# Altium footprint library mw.PcbLib: 252 footprints (part 14 of 16)
Each footprint in its own frame and in the unit in brackets; x right, y up, seen from the top. Pads: shape width x height; smd on the part's side, far side on the other; paste and mask are expansions set on the pad; w line width, h text height; cw(c..) or ccw(c..) is an arc to the next point about the centre after c.
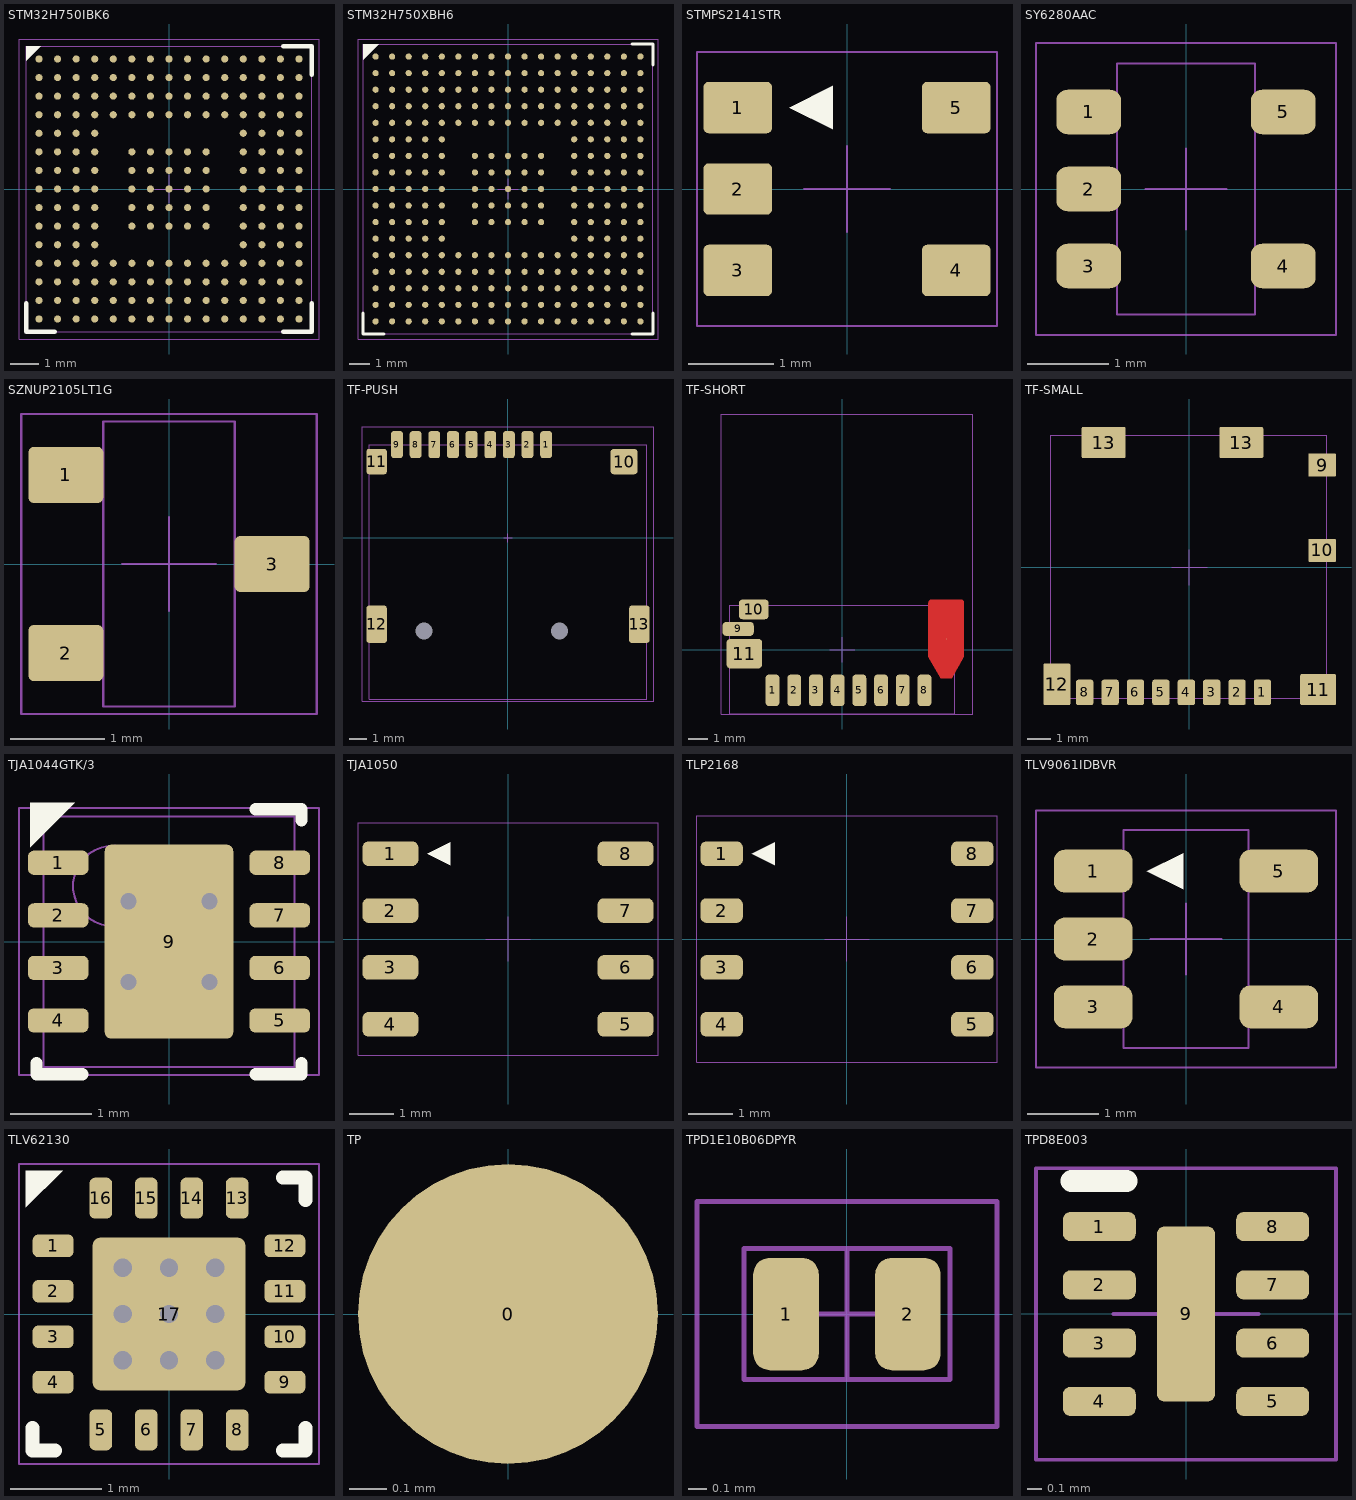
[diagram p13: the footprints below, top view; thin cyan lines are the x and y axes]

## STM32H750IBK6 [mm] "BGA, 201-Leads, Body 10.00x10.00mmx0.60mm, Pitch 0.65mm"
height 0.6
pads (201):
  round 0.25 smd: A1(-4.55,4.55) A2(-3.9,4.55) A3(-3.25,4.55) A4(-2.6,4.55) A5(-1.95,4.55) A6(-1.3,4.55) A7(-0.65,4.55) A8(0,4.55) A9(0.65,4.55) A10(1.3,4.55) A11(1.95,4.55) A12(2.6,4.55) A13(3.25,4.55) A14(3.9,4.55) A15(4.55,4.55) B1(-4.55,3.9) B2(-3.9,3.9) B3(-3.25,3.9) B4(-2.6,3.9) B5(-1.95,3.9) B6(-1.3,3.9) B7(-0.65,3.9) B8(0,3.9) B9(0.65,3.9) B10(1.3,3.9) B11(1.95,3.9) B12(2.6,3.9) B13(3.25,3.9) B14(3.9,3.9) B15(4.55,3.9) C1(-4.55,3.25) C2(-3.9,3.25) C3(-3.25,3.25) C4(-2.6,3.25) C5(-1.95,3.25) C6(-1.3,3.25) C7(-0.65,3.25) C8(0,3.25) C9(0.65,3.25) C10(1.3,3.25) C11(1.95,3.25) C12(2.6,3.25) C13(3.25,3.25) C14(3.9,3.25) C15(4.55,3.25) D1(-4.55,2.6) D2(-3.9,2.6) D3(-3.25,2.6) D4(-2.6,2.6) D5(-1.95,2.6) D6(-1.3,2.6) D7(-0.65,2.6) D8(0,2.6) D9(0.65,2.6) D10(1.3,2.6) D11(1.95,2.6) D12(2.6,2.6) D13(3.25,2.6) D14(3.9,2.6) D15(4.55,2.6) E1(-4.55,1.95) E2(-3.9,1.95) E3(-3.25,1.95) E4(-2.6,1.95) E12(2.6,1.95) E13(3.25,1.95) E14(3.9,1.95) E15(4.55,1.95) F1(-4.55,1.3) F2(-3.9,1.3) F3(-3.25,1.3) F4(-2.6,1.3) F6(-1.3,1.3) F7(-0.65,1.3) F8(0,1.3) F9(0.65,1.3) F10(1.3,1.3) F12(2.6,1.3) F13(3.25,1.3) F14(3.9,1.3) F15(4.55,1.3) G1(-4.55,0.65) G2(-3.9,0.65) G3(-3.25,0.65) G4(-2.6,0.65) G6(-1.3,0.65) G7(-0.65,0.65) G8(0,0.65) G9(0.65,0.65) G10(1.3,0.65) G12(2.6,0.65) G13(3.25,0.65) G14(3.9,0.65) G15(4.55,0.65) H1(-4.55,0) H2(-3.9,0) H3(-3.25,0) H4(-2.6,0) H6(-1.3,0) H7(-0.65,0) H8(0,0) H9(0.65,0) H10(1.3,0) H12(2.6,0) H13(3.25,0) H14(3.9,0) H15(4.55,0) J1(-4.55,-0.65) J2(-3.9,-0.65) J3(-3.25,-0.65) J4(-2.6,-0.65) J6(-1.3,-0.65) J7(-0.65,-0.65) J8(0,-0.65) J9(0.65,-0.65) J10(1.3,-0.65) J12(2.6,-0.65) J13(3.25,-0.65) J14(3.9,-0.65) J15(4.55,-0.65) K1(-4.55,-1.3) K2(-3.9,-1.3) K3(-3.25,-1.3) K4(-2.6,-1.3) K6(-1.3,-1.3) K7(-0.65,-1.3) K8(0,-1.3) K9(0.65,-1.3) K10(1.3,-1.3) K12(2.6,-1.3) K13(3.25,-1.3) K14(3.9,-1.3) K15(4.55,-1.3) L1(-4.55,-1.95) L2(-3.9,-1.95) L3(-3.25,-1.95) L4(-2.6,-1.95) L12(2.6,-1.95) L13(3.25,-1.95) L14(3.9,-1.95) L15(4.55,-1.95) M1(-4.55,-2.6) M2(-3.9,-2.6) M3(-3.25,-2.6) M4(-2.6,-2.6) M5(-1.95,-2.6) M6(-1.3,-2.6) M7(-0.65,-2.6) M8(0,-2.6) M9(0.65,-2.6) M10(1.3,-2.6) M11(1.95,-2.6) M12(2.6,-2.6) M13(3.25,-2.6) M14(3.9,-2.6) M15(4.55,-2.6) N1(-4.55,-3.25) N2(-3.9,-3.25) N3(-3.25,-3.25) N4(-2.6,-3.25) N5(-1.95,-3.25) N6(-1.3,-3.25) N7(-0.65,-3.25) N8(0,-3.25) N9(0.65,-3.25) N10(1.3,-3.25) N11(1.95,-3.25) N12(2.6,-3.25) N13(3.25,-3.25) N14(3.9,-3.25) N15(4.55,-3.25) P1(-4.55,-3.9) P2(-3.9,-3.9) P3(-3.25,-3.9) P4(-2.6,-3.9) P5(-1.95,-3.9) P6(-1.3,-3.9) P7(-0.65,-3.9) P8(0,-3.9) P9(0.65,-3.9) P10(1.3,-3.9) P11(1.95,-3.9) P12(2.6,-3.9) P13(3.25,-3.9) P14(3.9,-3.9) P15(4.55,-3.9) R1(-4.55,-4.55) R2(-3.9,-4.55) R3(-3.25,-4.55) R4(-2.6,-4.55) R5(-1.95,-4.55) R6(-1.3,-4.55) R7(-0.65,-4.55) R8(0,-4.55) R9(0.65,-4.55) R10(1.3,-4.55) R11(1.95,-4.55) R12(2.6,-4.55) R13(3.25,-4.55) R14(3.9,-4.55) R15(4.55,-4.55)
Top Overlay:
  region: -4.495,5 -5,4.495 -5,5
  lines w0.15: -5,-4 -5,-5 -4,-5 ; 4,-5 5,-5 5,-4 ; 4,5 5,5 5,4
Top 3D Body (Mech13):
  lines w0.025: -5,-5 5,-5 5,5 -5,5 -5,-5
Top Courtyard:
  lines w0.025: -0.5,0 0.5,0 ; 0,-0.5 0,0.5 ; -5.25,-5.25 5.25,-5.25 5.25,5.25 -5.25,5.25 -5.25,-5.25
3D body "STM32H750IBK6.step": height 0.6, standoff 0, extent -5,-5 5,5

## STM32H750XBH6 [mm] "BGA, 265-Leads, Body 14.00x14.00mmx1.20mm, Pitch 0.80mm"
height 1.2
pads (265):
  round 0.3 smd: A1(-6.4,6.4) A2(-5.6,6.4) A3(-4.8,6.4) A4(-4,6.4) A5(-3.2,6.4) A6(-2.4,6.4) A7(-1.6,6.4) A8(-0.8,6.4) A9(0,6.4) A10(0.8,6.4) A11(1.6,6.4) A12(2.4,6.4) A13(3.2,6.4) A14(4,6.4) A15(4.8,6.4) A16(5.6,6.4) A17(6.4,6.4) B1(-6.4,5.6) B2(-5.6,5.6) B3(-4.8,5.6) B4(-4,5.6) B5(-3.2,5.6) B6(-2.4,5.6) B7(-1.6,5.6) B8(-0.8,5.6) B9(0,5.6) B10(0.8,5.6) B11(1.6,5.6) B12(2.4,5.6) B13(3.2,5.6) B14(4,5.6) B15(4.8,5.6) B16(5.6,5.6) B17(6.4,5.6) C1(-6.4,4.8) C2(-5.6,4.8) C3(-4.8,4.8) C4(-4,4.8) C5(-3.2,4.8) C6(-2.4,4.8) C7(-1.6,4.8) C8(-0.8,4.8) C9(0,4.8) C10(0.8,4.8) C11(1.6,4.8) C12(2.4,4.8) C13(3.2,4.8) C14(4,4.8) C15(4.8,4.8) C16(5.6,4.8) C17(6.4,4.8) D1(-6.4,4) D2(-5.6,4) D3(-4.8,4) D4(-4,4) D5(-3.2,4) D6(-2.4,4) D7(-1.6,4) D8(-0.8,4) D9(0,4) D10(0.8,4) D11(1.6,4) D12(2.4,4) D13(3.2,4) D14(4,4) D15(4.8,4) D16(5.6,4) D17(6.4,4) E1(-6.4,3.2) E2(-5.6,3.2) E3(-4.8,3.2) E4(-4,3.2) E5(-3.2,3.2) E6(-2.4,3.2) E7(-1.6,3.2) E8(-0.8,3.2) E9(0,3.2) E10(0.8,3.2) E11(1.6,3.2) E12(2.4,3.2) E13(3.2,3.2) E14(4,3.2) E15(4.8,3.2) E16(5.6,3.2) E17(6.4,3.2) F1(-6.4,2.4) F2(-5.6,2.4) F3(-4.8,2.4) F4(-4,2.4) F5(-3.2,2.4) F13(3.2,2.4) F14(4,2.4) F15(4.8,2.4) F16(5.6,2.4) F17(6.4,2.4) G1(-6.4,1.6) G2(-5.6,1.6) G3(-4.8,1.6) G4(-4,1.6) G5(-3.2,1.6) G7(-1.6,1.6) G8(-0.8,1.6) G9(0,1.6) G10(0.8,1.6) G11(1.6,1.6) G13(3.2,1.6) G14(4,1.6) G15(4.8,1.6) G16(5.6,1.6) G17(6.4,1.6) H1(-6.4,0.8) H2(-5.6,0.8) H3(-4.8,0.8) H4(-4,0.8) H5(-3.2,0.8) H7(-1.6,0.8) H8(-0.8,0.8) H9(0,0.8) H10(0.8,0.8) H11(1.6,0.8) H13(3.2,0.8) H14(4,0.8) H15(4.8,0.8) H16(5.6,0.8) H17(6.4,0.8) J1(-6.4,0) J2(-5.6,0) J3(-4.8,0) J4(-4,0) J5(-3.2,0) J7(-1.6,0) J8(-0.8,0) J9(0,0) J10(0.8,0) J11(1.6,0) J13(3.2,0) J14(4,0) J15(4.8,0) J16(5.6,0) J17(6.4,0) K1(-6.4,-0.8) K2(-5.6,-0.8) K3(-4.8,-0.8) K4(-4,-0.8) K5(-3.2,-0.8) K7(-1.6,-0.8) K8(-0.8,-0.8) K9(0,-0.8) K10(0.8,-0.8) K11(1.6,-0.8) K13(3.2,-0.8) K14(4,-0.8) K15(4.8,-0.8) K16(5.6,-0.8) K17(6.4,-0.8) L1(-6.4,-1.6) L2(-5.6,-1.6) L3(-4.8,-1.6) L4(-4,-1.6) L5(-3.2,-1.6) L7(-1.6,-1.6) L8(-0.8,-1.6) L9(0,-1.6) L10(0.8,-1.6) L11(1.6,-1.6) L13(3.2,-1.6) L14(4,-1.6) L15(4.8,-1.6) L16(5.6,-1.6) L17(6.4,-1.6) M1(-6.4,-2.4) M2(-5.6,-2.4) M3(-4.8,-2.4) M4(-4,-2.4) M5(-3.2,-2.4) M13(3.2,-2.4) M14(4,-2.4) M15(4.8,-2.4) M16(5.6,-2.4) M17(6.4,-2.4) N1(-6.4,-3.2) N2(-5.6,-3.2) N3(-4.8,-3.2) N4(-4,-3.2) N5(-3.2,-3.2) N6(-2.4,-3.2) N7(-1.6,-3.2) N8(-0.8,-3.2) N9(0,-3.2) N10(0.8,-3.2) N11(1.6,-3.2) N12(2.4,-3.2) N13(3.2,-3.2) N14(4,-3.2) N15(4.8,-3.2) N16(5.6,-3.2) N17(6.4,-3.2) P1(-6.4,-4) P2(-5.6,-4) P3(-4.8,-4) P4(-4,-4) P5(-3.2,-4) P6(-2.4,-4) P7(-1.6,-4) P8(-0.8,-4) P9(0,-4) P10(0.8,-4) P11(1.6,-4) P12(2.4,-4) P13(3.2,-4) P14(4,-4) P15(4.8,-4) P16(5.6,-4) P17(6.4,-4) R1(-6.4,-4.8) R2(-5.6,-4.8) R3(-4.8,-4.8) R4(-4,-4.8) R5(-3.2,-4.8) R6(-2.4,-4.8) R7(-1.6,-4.8) R8(-0.8,-4.8) R9(0,-4.8) R10(0.8,-4.8) R11(1.6,-4.8) R12(2.4,-4.8) R13(3.2,-4.8) R14(4,-4.8) R15(4.8,-4.8) R16(5.6,-4.8) R17(6.4,-4.8) T1(-6.4,-5.6) T2(-5.6,-5.6) T3(-4.8,-5.6) T4(-4,-5.6) T5(-3.2,-5.6) T6(-2.4,-5.6) T7(-1.6,-5.6) T8(-0.8,-5.6) T9(0,-5.6) T10(0.8,-5.6) T11(1.6,-5.6) T12(2.4,-5.6) T13(3.2,-5.6) T14(4,-5.6) T15(4.8,-5.6) T16(5.6,-5.6) T17(6.4,-5.6) U1(-6.4,-6.4) U2(-5.6,-6.4) U3(-4.8,-6.4) U4(-4,-6.4) U5(-3.2,-6.4) U6(-2.4,-6.4) U7(-1.6,-6.4) U8(-0.8,-6.4) U9(0,-6.4) U10(0.8,-6.4) U11(1.6,-6.4) U12(2.4,-6.4) U13(3.2,-6.4) U14(4,-6.4) U15(4.8,-6.4) U16(5.6,-6.4) U17(6.4,-6.4)
Top Overlay:
  region: -6.245,7 -7,6.245 -7,7
  lines w0.15: -7,-6 -7,-7 -6,-7 ; 6,-7 7,-7 7,-6 ; 6,7 7,7 7,6
Top 3D Body (Mech13):
  lines w0.025: -7,-7 7,-7 7,7 -7,7 -7,-7
Top Courtyard:
  lines w0.025: -0.5,0 0.5,0 ; 0,-0.5 0,0.5 ; -7.25,-7.25 7.25,-7.25 7.25,7.25 -7.25,7.25 -7.25,-7.25
3D body "STM32H750XBH6.step": height 1.2, standoff 0, extent -7,-7 7,7

## STMPS2141STR [mm] "SOT23, 5-Leads, Body 2.90x2.80mm, Pitch 0.95mm, IPC High Density"
height 0.9
pads (5):
  rrect20% 0.8x0.6 smd: 1(-1.275,0.95) 2(-1.275,0) 3(-1.275,-0.95) 4(1.275,-0.95) 5(1.275,0.95)
Top Overlay:
  region: -0.167,0.696 -0.167,1.204 -0.675,0.95
Top Courtyard:
  lines w0.025: -0.5,0 0.5,0 ; 0,-0.5 0,0.5 ; -1.75,-1.6 1.75,-1.6 1.75,1.6 -1.75,1.6 -1.75,-1.6

## SY6280AAC [mm] "SOT23, 5-Leads, Body 2.95x2.85mm, Pitch 0.95mm, IPC Medium Density"
height 1.4
pads (5):
  rrect50% 0.8x0.55 smd: 1(-1.2,0.95) 2(-1.2,0) 3(-1.2,-0.95) 4(1.2,-0.95) 5(1.2,0.95)
Top 3D Body (Mech13):
  lines w0.025: -0.85,-1.55 0.85,-1.55 0.85,1.55 -0.85,1.55 -0.85,-1.55
Top Courtyard:
  lines w0.025: -0.5,0 0.5,0 ; 0,-0.5 0,0.5 ; -1.85,-1.8 -1.85,1.8 1.85,1.8 1.85,-1.8 -1.85,-1.8
3D body "SY6280AAC.step": height 1.4, standoff 0, extent -1.5,-1.55 1.5,1.55

## SZNUP2105LT1G [mm]
height 1
pads (3):
  rrect20% 0.8x0.6 smd: 1(-1.1,0.95) 2(-1.1,-0.95) 3(1.1,0)
Top 3D Body (Mech13):
  lines w0.025: -0.7,-1.52 -0.7,1.52 0.7,1.52 0.7,-1.52 -0.7,-1.52
Top Courtyard:
  lines w0.025: -0.5,0 0.5,0 ; 0,-0.5 0,0.5 ; -1.575,-1.6 -1.575,1.6 1.575,1.6 1.575,-1.6 -1.575,-1.6
3D body "SZNUP2105LT1G.step": height 1, standoff 0, extent -1.32,-1.52 1.32,1.52

## TF-PUSH [mm]
pads (15):
  rrect50% 0.7x1.6 smd: 1(2.25,5.5) 2(1.15,5.5) 3(0.05,5.5) 4(-1.05,5.5) 5(-2.15,5.5) 6(-3.25,5.5) 7(-4.35,5.5) 8(-5.45,5.5) 9(-6.55,5.5)
  rrect25% 1.6x1.5 smd: 10(6.85,4.5)
  rrect25% 1.2x1.5 smd: 11(-7.75,4.5)
  rrect25% 1.2x2.2 smd: 12(-7.75,-5.1) 13(7.75,-5.1)
  round 0 hole 1 unplated: NPH(-4.95,-5.5) NPH(3.05,-5.5)
Top 3D Body (Mech13):
  lines w0.025: -8.2,-9.534 -8.2,5.492 8.2,5.492 8.2,-9.534 -8.2,-9.534
Top Courtyard:
  lines w0.025: -0.255,-0.002 0.253,-0.002 ; -0.001,-0.256 -0.001,0.252 ; -8.593,-9.65 8.598,-9.65 8.598,6.562 -8.593,6.562 -8.593,-9.65
3D body "TF-PUSH.step": height 1.85, standoff -0.63, extent -8.2,-9.534 8.2,5.492

## TF-SHORT [mm]
pads (12):
  rrect50% 0.7x1.6 smd: 1(-3.53,-2.05) 2(-2.43,-2.05) 3(-1.33,-2.05) 4(-0.23,-2.05) 5(0.87,-2.05) 6(1.97,-2.05) 7(3.07,-2.05) 8(4.17,-2.05)
  rrect50% 1.58x0.7 smd: 9(-5.27,1.06)
  rrect35% 1.5x1 smd: 10(-4.48,2.05)
  rrect25% 1.8x1.5 smd: 11(-4.96,-0.19)
  round 0.025 smd: 11(5.27,0.55)
Top Layer:
  region: 5.557,-1.45 5.003,-1.45 4.37,-0.345 4.37,2.37 4.37,2.388 4.377,2.423 4.39,2.455 4.41,2.485 4.435,2.51 4.465,2.53 4.497,2.543 4.532,2.55 4.55,2.55 5.99,2.55 6.008,2.55 6.043,2.543 6.075,2.53 6.105,2.51 6.13,2.485 6.15,2.455 6.163,2.423 6.17,2.388 6.17,2.37 6.17,-0.348
Top 3D Body (Mech13):
  lines w0.025: -5.705,-3.25 -5.705,2.25 5.705,2.25 5.705,-3.25 -5.705,-3.25
Top Courtyard:
  lines w0.025: -0.635,0 0.635,0 ; 0,-0.635 0,0.635 ; -6.116,-3.25 -6.116,11.95 6.604,11.95 6.604,-3.25 -6.116,-3.25
3D body "TF-SHORT.step": height 3, standoff 0, extent -5.705,-3.25 5.705,2.25

## TF-SMALL [mm]
pads (14):
  rrect25% 0.75x1.1 smd: 1(3.163,-5.412) 2(2.063,-5.412) 3(0.962,-5.412) 4(-0.137,-5.412) 5(-1.237,-5.412) 6(-2.337,-5.412) 7(-3.437,-5.412) 8(-4.537,-5.412)
  rrect10% 1.2x1 smd: 9(5.748,4.438) 10(5.748,0.738)
  rrect10% 1.55x1.35 smd: 11(5.573,-5.287)
  rrect10% 1.17x1.8 smd: 12(-5.747,-5.062)
  rrect10% 1.9x1.35 smd: 13(-3.722,5.413) 13(2.248,5.413)
Top Courtyard:
  lines w0.025: -0.762,0 0.762,0 ; 0,-0.762 0,0.762 ; -6.008,-5.662 5.942,-5.662 5.942,5.738 -6.008,5.738 -6.008,-5.662

## TJA1044GTK/3 [mm]
height 1
pads (9):
  rrect50% 0.75x0.3 smd: 1(-1.37,0.975) 2(-1.37,0.325) 3(-1.37,-0.325) 4(-1.37,-0.975) 5(1.37,-0.975) 6(1.37,-0.325) 7(1.37,0.325) 8(1.37,0.975)
  rrect10% 1.59x2.4 smd: 9(0,0)
via 0.5,-0.5 diameter 0.5 hole 0.2
via -0.5,-0.5 diameter 0.5 hole 0.2
via 0.5,0.5 diameter 0.5 hole 0.2
via -0.5,0.5 diameter 0.5 hole 0.2
Top Overlay:
  region: -1.715,1.715 -1.168,1.715 -1.715,1.169
  lines w0.152: -1.639,-1.501 -1.639,-1.639 -1.071,-1.639 ; 1.071,-1.639 1.639,-1.639 1.639,-1.501 ; 1.071,1.639 1.639,1.639 1.639,1.501
Top 3D Body (Mech13):
  circle w0.025: c-0.687,0.687 r0.5
  lines w0.025: -1.55,-1.55 1.55,-1.55 1.55,1.55 -1.55,1.55 -1.55,-1.55
Top Courtyard:
  lines w0.025: -0.5,0 0.5,0 ; 0,-0.5 0,0.5 ; -1.855,-1.65 1.855,-1.65 1.855,1.65 -1.855,1.65 -1.855,-1.65
3D body: height 1, standoff 0.03, extent -1.55,-1.55 1.55,1.55

## TJA1050 [mm]
height 1.75
pads (8):
  rrect50% 1.25x0.55 smd: 1(-2.625,1.905) 2(-2.625,0.635) 3(-2.625,-0.635) 4(-2.625,-1.905) 5(2.625,-1.905) 6(2.625,-0.635) 7(2.625,0.635) 8(2.625,1.905)
Top Overlay:
  region: -1.292,1.651 -1.292,2.159 -1.8,1.905
Top Courtyard:
  lines w0.025: -0.5,0 0.5,0 ; 0,-0.5 0,0.5 ; -3.35,-2.6 -3.35,2.6 3.35,2.6 3.35,-2.6 -3.35,-2.6
3D body "tja1050.STEP": height 1.66, standoff 0, extent -3.078,-2.483 3.077,2.417

## TLP2168 [mm]
pads (8):
  rrect50% 0.95x0.55 smd: 1(-2.8,1.905) 2(-2.8,0.635) 3(-2.8,-0.635) 4(-2.8,-1.905) 5(2.8,-1.905) 6(2.8,-0.635) 7(2.8,0.635) 8(2.8,1.905)
Top Overlay:
  region: -1.617,1.651 -1.617,2.159 -2.125,1.905
Top Courtyard:
  lines w0.025: -0.5,0 0.5,0 ; 0,-0.5 0,0.5 ; -3.35,-2.75 3.35,-2.75 3.35,2.75 -3.35,2.75 -3.35,-2.75

## TLV9061IDBVR [mm] "SOT23, 5-Leads, Body 2.90x2.80mm, Pitch 0.95mm, IPC Medium Density"
height 1.45
pads (5):
  rrect50% 1.1x0.6 smd: 1(-1.3,0.95) 2(-1.3,0) 3(-1.3,-0.95) 4(1.3,-0.95) 5(1.3,0.95)
Top Overlay:
  region: -0.042,0.696 -0.042,1.204 -0.55,0.95
Top 3D Body (Mech13):
  lines w0.025: -0.875,-1.525 0.875,-1.525 0.875,1.525 -0.875,1.525 -0.875,-1.525
Top Courtyard:
  lines w0.025: -0.5,0 0.5,0 ; 0,-0.5 0,0.5 ; -2.1,-1.8 2.1,-1.8 2.1,1.8 -2.1,1.8 -2.1,-1.8
3D body "TLV9061IDBVR.step": height 1.45, standoff 0, extent -1.5,-1.525 1.5,1.525

## TLV62130 [mm] "PQFN, 16-Leads, Body 3.00x3.00mm, Pitch 0.50mm, Thermal Pad 1.68x1.68mm, IPC High Density"
height 1
pads (17):
  rrect50% 0.45x0.25 smd: 1(-1.275,0.75) 2(-1.275,0.25) 3(-1.275,-0.25) 4(-1.275,-0.75) 9(1.275,-0.75) 10(1.275,-0.25) 11(1.275,0.25) 12(1.275,0.75)
  rrect50% 0.25x0.45 smd: 5(-0.75,-1.275) 6(-0.25,-1.275) 7(0.25,-1.275) 8(0.75,-1.275) 13(0.75,1.275) 14(0.25,1.275) 15(-0.25,1.275) 16(-0.75,1.275)
  rrect10% 1.68x1.68 smd: 17(0,0)
via 0.508,-0.508 diameter 0.45 hole 0.2
via 0,-0.508 diameter 0.45 hole 0.2
via -0.508,-0.508 diameter 0.45 hole 0.2
via 0.508,0 diameter 0.45 hole 0.2
via 0,0 diameter 0.45 hole 0.2
via 0.508,0.508 diameter 0.45 hole 0.2
via -0.508,0.508 diameter 0.45 hole 0.2
via 0,0.508 diameter 0.45 hole 0.2
via -0.508,0 diameter 0.45 hole 0.2
Top Overlay:
  region: -1.17,1.577 -1.575,1.172 -1.575,1.577
  lines w0.152: -1.5,-1.251 -1.5,-1.5 -1.251,-1.5 ; 1.251,-1.5 1.5,-1.5 1.5,-1.251 ; 1.251,1.5 1.5,1.5 1.5,1.251
Top Courtyard:
  lines w0.025: -0.5,0 0.5,0 ; 0,-0.5 0,0.5 ; -1.65,-1.65 -1.65,1.65 1.65,1.65 1.65,-1.65 -1.65,-1.65

## TP [mm]
pads (1):
  round 0.8 smd: 0(0,0)

## TPD1E10B06DPYR [mm] "DFN, 2-Leads, Body 1.00x0.60mm, Pitch 0.65mm, IPC Medium Density"
height 0.45
pads (2):
  rrect50% 0.35x0.6 smd: 1(-0.325,0) 2(0.325,0)
Top 3D Body (Mech13):
  lines w0.025: -0.55,-0.35 -0.55,0.35 0.55,0.35 0.55,-0.35 -0.55,-0.35
Top Courtyard:
  lines w0.025: -0.35,0 0.35,0 ; 0,-0.35 0,0.35 ; -0.8,-0.6 0.8,-0.6 0.8,0.6 -0.8,0.6 -0.8,-0.6
3D body "TPD1E10B06DPYR.step": height 0.45, standoff 0, extent -0.55,-0.35 0.55,0.35

## TPD8E003 [mm] "SON, 8-Leads, Body 1.70x1.35mm, Pitch 0.40mm, Thermal Pad 1.20x0.40mm, IPC High Density"
height 0.75
pads (9):
  rrect50% 0.5x0.2 smd: 1(-0.595,0.6) 2(-0.595,0.2) 3(-0.595,-0.2) 4(-0.595,-0.6) 5(0.595,-0.6) 6(0.595,-0.2) 7(0.595,0.2) 8(0.595,0.6)
  rrect25% 0.4x1.2 smd: 9(0,0)
Top Overlay:
  lines w0.15: -0.787,0.914 -0.406,0.914
Top Courtyard:
  lines w0.025: -0.5,0 0.5,0 ; 0,-0.5 0,0.5 ; -1.03,-1 1.03,-1 1.03,1 -1.03,1 -1.03,-1